# Altium integrated library WE-TI Radial Leaded Wire Wound Inductor.IntLib: 113 symbols (part 1 of 2)
Pins are listed as number, name and electrical type; pins without a type are passive.

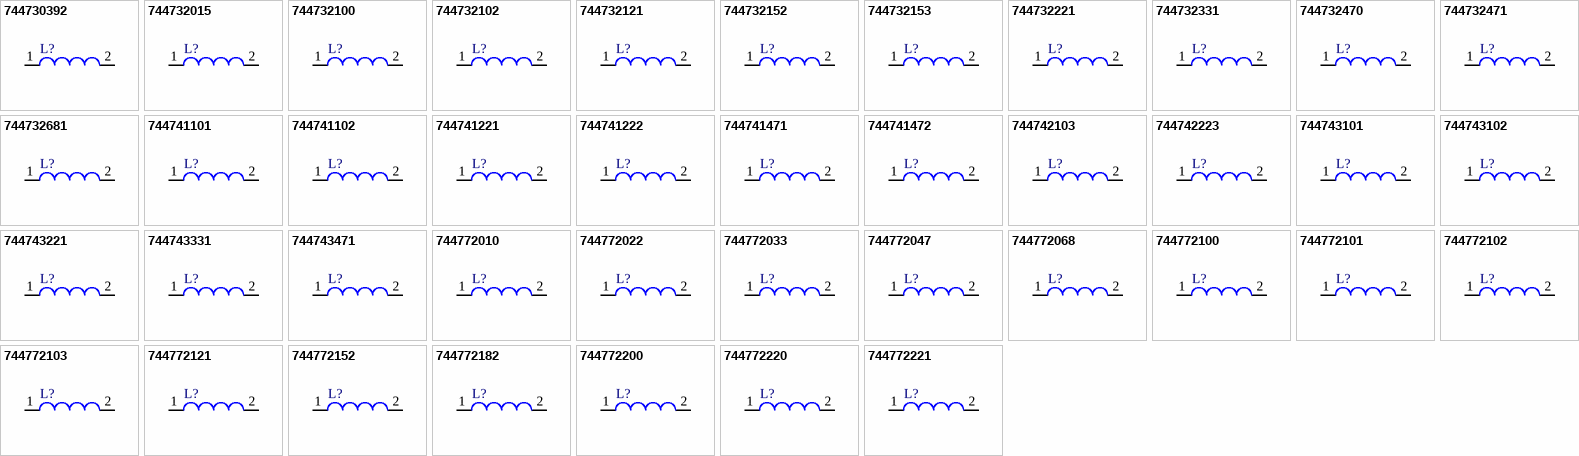
[diagram p0: symbols 744730392 to 744772221]

## 744730392
designator L?
Radial Leaded Wire Wound Inductor WE-TI, L=3900 µH; PartNumber: 744730392; Inductance: 3900 µH; PackageReference: WE-TI-LM; PackageDescription: THT Inductor, 2-Leads, Body 7.8 x 7.8 mm; ComponentLink1Description: Manufacturer URL; ComponentLink1URL: http://www.we-online.com; ComponentLink2Description: Datasheet; ComponentLink2URL: http://www.we-online.de/katalog/media/pdf/744730392.pdf
footprint WE-TI-LM (THT Inductor, 2-Leads, Body 7.8x7.8x7.5 mm)
pins: 1, 2

## 744732015
designator L?
Radial Leaded Wire Wound Inductor WE-TI, L = 1.50 µH; PartNumber: 744732015; DatasheetVersion: ver 4, Oct-2009; PackageReference: WE-TI-LM-STBG; PackageDescription: THT Inductor, 2-Leads, Body 9.5 x 9.5 mm; ComponentLink1Description: Manufacturer URL; ComponentLink1URL: http://www.we-online.com; ComponentLink2Description: Datasheet; ComponentLink2URL: http://www.we-online.de/katalog/media/pdf/744732015.pdf
footprint WE-TI-LM-STBG (THT Inductor, 2-Leads, Body 9.5x9.5x8.0 mm)
pins: 1, 2

## 744732100
designator L?
Radial Leaded Wire Wound Inductor WE-TI, L = 10.0 µH; PartNumber: 744732100; DatasheetVersion: ver 4, Oct-2009; PackageReference: WE-TI-LM-STBG; PackageDescription: THT Inductor, 2-Leads, Body 9.5 x 9.5 mm; ComponentLink1Description: Manufacturer URL; ComponentLink1URL: http://www.we-online.com; ComponentLink2Description: Datasheet; ComponentLink2URL: http://www.we-online.de/katalog/media/pdf/744732100.pdf
footprint WE-TI-LM-STBG (THT Inductor, 2-Leads, Body 9.5x9.5x8.0 mm)
pins: 1, 2

## 744732102
designator L?
Radial Leaded Wire Wound Inductor WE-TI, L = 1000 µH; PartNumber: 744732102; DatasheetVersion: ver 1, Mar-2010; PackageReference: WE-TI-LM-STBG; PackageDescription: THT Inductor, 2-Leads, Body 9.5 x 9.5 mm; ComponentLink1Description: Manufacturer URL; ComponentLink1URL: http://www.we-online.com; ComponentLink2Description: Datasheet; ComponentLink2URL: http://www.we-online.de/katalog/media/pdf/744732102.pdf
footprint WE-TI-LM-STBG (THT Inductor, 2-Leads, Body 9.5x9.5x8.0 mm)
pins: 1, 2

## 744732121
designator L?
Radial Leaded Wire Wound Inductor WE-TI, L = 120 µH; PartNumber: 744732121; DatasheetVersion: ver 1, Jan-2010; PackageReference: WE-TI-LM-STBG; PackageDescription: THT Inductor, 2-Leads, Body 9.5 x 9.5 mm; ComponentLink1Description: Manufacturer URL; ComponentLink1URL: http://www.we-online.com; ComponentLink2Description: Datasheet; ComponentLink2URL: http://www.we-online.de/katalog/media/pdf/744732121.pdf
footprint WE-TI-LM-STBG (THT Inductor, 2-Leads, Body 9.5x9.5x8.0 mm)
pins: 1, 2

## 744732152
designator L?
Radial Leaded Wire Wound Inductor WE-TI, L=1500 µH; PartNumber: 744732152; Inductance: 1500 µH; PackageReference: WE-TI-LM-STBG; PackageDescription: THT Inductor, 2-Leads, Body 9.5 x 9.5 mm; ComponentLink1Description: Manufacturer URL; ComponentLink1URL: http://www.we-online.com; ComponentLink2Description: Datasheet; ComponentLink2URL: http://www.we-online.de/katalog/media/pdf/744732152.pdf
footprint WE-TI-LM-STBG (THT Inductor, 2-Leads, Body 9.5x9.5x8.0 mm)
pins: 1, 2

## 744732153
designator L?
Radial Leaded Wire Wound Inductor WE-TI, L=15000 µH; PartNumber: 744732153; PackageReference: WE-TI-LM-STBG; PackageDescription: THT Inductor, 2-Leads, Body 9.5 x 9.5 mm; Inductance: 15000 µH; ComponentLink1Description: Manufacturer URL; ComponentLink1URL: http://www.we-online.com; ComponentLink2Description: Datasheet; ComponentLink2URL: http://www.we-online.de/katalog/media/pdf/744732153.pdf
footprint WE-TI-LM-STBG (THT Inductor, 2-Leads, Body 9.5x9.5x8.0 mm)
pins: 1, 2

## 744732221
designator L?
Radial Leaded Wire Wound Inductor WE-TI, L = 220 µH; PartNumber: 744732221; DatasheetVersion: ver 1, Mar-2010; PackageReference: WE-TI-LM-STBG; PackageDescription: THT Inductor, 2-Leads, Body 9.5 x 9.5 mm; ComponentLink1Description: Manufacturer URL; ComponentLink1URL: http://www.we-online.com; ComponentLink2Description: Datasheet; ComponentLink2URL: http://www.we-online.de/katalog/media/pdf/744732221.pdf
footprint WE-TI-LM-STBG (THT Inductor, 2-Leads, Body 9.5x9.5x8.0 mm)
pins: 1, 2

## 744732331
designator L?
Radial Leaded Wire Wound Inductor WE-TI, L = 330 µH; PartNumber: 744732331; DatasheetVersion: ver 3, Nov-2009; PackageReference: WE-TI-LM-STBG; PackageDescription: THT Inductor, 2-Leads, Body 9.5 x 9.5 mm; ComponentLink1Description: Manufacturer URL; ComponentLink1URL: http://www.we-online.com; ComponentLink2Description: Datasheet; ComponentLink2URL: http://www.we-online.de/katalog/media/pdf/744732331.pdf
footprint WE-TI-LM-STBG (THT Inductor, 2-Leads, Body 9.5x9.5x8.0 mm)
pins: 1, 2

## 744732470
designator L?
Radial Leaded Wire Wound Inductor WE-TI, L = 47.0 µH; PartNumber: 744732470; DatasheetVersion: ver 2, Jan-2010; PackageReference: WE-TI-LM-STBG; PackageDescription: THT Inductor, 2-Leads, Body 9.5 x 9.5 mm; ComponentLink1Description: Manufacturer URL; ComponentLink1URL: http://www.we-online.com; ComponentLink2Description: Datasheet; ComponentLink2URL: http://www.we-online.de/katalog/media/pdf/744732470.pdf
footprint WE-TI-LM-STBG (THT Inductor, 2-Leads, Body 9.5x9.5x8.0 mm)
pins: 1, 2

## 744732471
designator L?
Radial Leaded Wire Wound Inductor WE-TI, L = 470 µH; PartNumber: 744732471; DatasheetVersion: ver 1, Mar-2010; PackageReference: WE-TI-LM-STBG; PackageDescription: THT Inductor, 2-Leads, Body 9.5 x 9.5 mm; ComponentLink1Description: Manufacturer URL; ComponentLink1URL: http://www.we-online.com; ComponentLink2Description: Datasheet; ComponentLink2URL: http://www.we-online.de/katalog/media/pdf/744732471.pdf
footprint WE-TI-LM-STBG (THT Inductor, 2-Leads, Body 9.5x9.5x8.0 mm)
pins: 1, 2

## 744732681
designator L?
Radial Leaded Wire Wound Inductor WE-TI, L = 680 µH; PartNumber: 744732681; DatasheetVersion: ver 1, Mar-2010; PackageReference: WE-TI-LM-STBG; PackageDescription: THT Inductor, 2-Leads, Body 9.5 x 9.5 mm; ComponentLink1Description: Manufacturer URL; ComponentLink1URL: http://www.we-online.com; ComponentLink2Description: Datasheet; ComponentLink2URL: http://www.we-online.de/katalog/media/pdf/744732681.pdf
footprint WE-TI-LM-STBG (THT Inductor, 2-Leads, Body 9.5x9.5x8.0 mm)
pins: 1, 2

## 744741101
designator L?
Radial Leaded Wire Wound Inductor WE-TI, L = 100 µH; PartNumber: 744741101; DatasheetVersion: ver 2, Nov-2004; PackageReference: WE-TI-LS; PackageDescription: THT Inductor, 2-Leads, Body 8.0 x 8.0 mm; ComponentLink1Description: Manufacturer URL; ComponentLink1URL: http://www.we-online.com; ComponentLink2Description: Datasheet; ComponentLink2URL: http://www.we-online.de/katalog/media/pdf/744741101.pdf
footprint WE-TI-LS (THT Inductor, 2-Leads, Body 8.0x8.0x6.0 mm)
pins: 1, 2

## 744741102
designator L?
Radial Leaded Wire Wound Inductor WE-TI, L = 1000 µH; PartNumber: 744741102; DatasheetVersion: ver 2, Nov-2004; PackageReference: WE-TI-LS; PackageDescription: THT Inductor, 2-Leads, Body 8.0 x 8.0 mm; ComponentLink1Description: Manufacturer URL; ComponentLink1URL: http://www.we-online.com; ComponentLink2Description: Datasheet; ComponentLink2URL: http://www.we-online.de/katalog/media/pdf/744741102.pdf
footprint WE-TI-LS (THT Inductor, 2-Leads, Body 8.0x8.0x6.0 mm)
pins: 1, 2

## 744741221
designator L?
Radial Leaded Wire Wound Inductor WE-TI, L = 220 µH; PartNumber: 744741221; DatasheetVersion: ver 2, Nov-2004; PackageReference: WE-TI-LS; PackageDescription: THT Inductor, 2-Leads, Body 8.0 x 8.0 mm; ComponentLink1Description: Manufacturer URL; ComponentLink1URL: http://www.we-online.com; ComponentLink2Description: Datasheet; ComponentLink2URL: http://www.we-online.de/katalog/media/pdf/744741221.pdf
footprint WE-TI-LS (THT Inductor, 2-Leads, Body 8.0x8.0x6.0 mm)
pins: 1, 2

## 744741222
designator L?
Radial Leaded Wire Wound Inductor WE-TI, L = 2200 µH; PartNumber: 744741222; DatasheetVersion: ver 2, Nov-2004; PackageReference: WE-TI-LS; PackageDescription: THT Inductor, 2-Leads, Body 8.0 x 8.0 mm; ComponentLink1Description: Manufacturer URL; ComponentLink1URL: http://www.we-online.com; ComponentLink2Description: Datasheet; ComponentLink2URL: http://www.we-online.de/katalog/media/pdf/744741222.pdf
footprint WE-TI-LS (THT Inductor, 2-Leads, Body 8.0x8.0x6.0 mm)
pins: 1, 2

## 744741471
designator L?
Radial Leaded Wire Wound Inductor WE-TI, L = 470 µH; PartNumber: 744741471; DatasheetVersion: ver 2, Nov-2004; PackageReference: WE-TI-LS; PackageDescription: THT Inductor, 2-Leads, Body 8.0 x 8.0 mm; ComponentLink1Description: Manufacturer URL; ComponentLink1URL: http://www.we-online.com; ComponentLink2Description: Datasheet; ComponentLink2URL: http://www.we-online.de/katalog/media/pdf/744741471.pdf
footprint WE-TI-LS (THT Inductor, 2-Leads, Body 8.0x8.0x6.0 mm)
pins: 1, 2

## 744741472
designator L?
Radial Leaded Wire Wound Inductor WE-TI, L = 4700 µH; PartNumber: 744741472; DatasheetVersion: ver 2, Nov-2004; PackageReference: WE-TI-LS; PackageDescription: THT Inductor, 2-Leads, Body 8.0 x 8.0 mm; ComponentLink1Description: Manufacturer URL; ComponentLink1URL: http://www.we-online.com; ComponentLink2Description: Datasheet; ComponentLink2URL: http://www.we-online.de/katalog/media/pdf/744741472.pdf
footprint WE-TI-LS (THT Inductor, 2-Leads, Body 8.0x8.0x6.0 mm)
pins: 1, 2

## 744742103
designator L?
Radial Leaded Wire Wound Inductor WE-TI, L=10000 µH; PartNumber: 744742103; PackageReference: WE-TI-L; PackageDescription: THT Inductor, 2-Leads, Body 7.8 x 7.8 mm; Inductance: 10000 µH; ComponentLink1Description: Manufacturer URL; ComponentLink1URL: http://www.we-online.com; ComponentLink2Description: Datasheet; ComponentLink2URL: http://www.we-online.de/katalog/media/pdf/744742103.pdf
footprint WE-TI 8095 shrink tube (THT Inductor, 2-Leads, Body 8,0  mm)
pins: 1, 2

## 744742223
designator L?
Radial Leaded Wire Wound Inductor WE-TI, L = 22000 µH; PartNumber: 744742223; DatasheetVersion: ver 5, Nov-2005; PackageReference: WE-TI-L; PackageDescription: THT Inductor, 2-Leads, Body 7.8 x 7.8 mm; ComponentLink1Description: Manufacturer URL; ComponentLink1URL: http://www.we-online.com; ComponentLink2Description: Datasheet; ComponentLink2URL: http://www.we-online.de/katalog/media/pdf/744742223.pdf
footprint WE-TI-L (THT Inductor, 2-Leads, Body 7.8x7.8x10.0 mm)
pins: 1, 2

## 744743101
designator L?
Radial Leaded Wire Wound Inductor WE-TI, L = 100 µH; PartNumber: 744743101; DatasheetVersion: ver 3, Nov-2004; PackageReference: WE-TI-LB; PackageDescription: THT Inductor, 2-Leads, Body 8.0 x 8.0 mm; ComponentLink1Description: Manufacturer URL; ComponentLink1URL: http://www.we-online.com; ComponentLink2Description: Datasheet; ComponentLink2URL: http://www.we-online.de/katalog/media/pdf/744743101.pdf
footprint WE-TI-LB (THT Inductor, 2-Leads, Body 8.0x8.0x12.5 mm)
pins: 1, 2

## 744743102
designator L?
Radial Leaded Wire Wound Inductor WE-TI, L = 1000 µH; PartNumber: 744743102; DatasheetVersion: ver 3, Nov-2004; PackageReference: WE-TI-LB; PackageDescription: THT Inductor, 2-Leads, Body 8.0 x 8.0 mm; ComponentLink1Description: Manufacturer URL; ComponentLink1URL: http://www.we-online.com; ComponentLink2Description: Datasheet; ComponentLink2URL: http://www.we-online.de/katalog/media/pdf/744743102.pdf
footprint WE-TI-LB (THT Inductor, 2-Leads, Body 8.0x8.0x12.5 mm)
pins: 1, 2

## 744743221
designator L?
Radial Leaded Wire Wound Inductor WE-TI, L = 220 µH; PartNumber: 744743221; DatasheetVersion: ver 3, Nov-2004; PackageReference: WE-TI-LB; PackageDescription: THT Inductor, 2-Leads, Body 8.0 x 8.0 mm; ComponentLink1Description: Manufacturer URL; ComponentLink1URL: http://www.we-online.com; ComponentLink2Description: Datasheet; ComponentLink2URL: http://www.we-online.de/katalog/media/pdf/744743221.pdf
footprint WE-TI-LB (THT Inductor, 2-Leads, Body 8.0x8.0x12.5 mm)
pins: 1, 2

## 744743331
designator L?
Radial Leaded Wire Wound Inductor WE-TI, L = 330 µH; PartNumber: 744743331; DatasheetVersion: ver 3, Nov-2004; PackageReference: WE-TI-LB; PackageDescription: THT Inductor, 2-Leads, Body 8.0 x 8.0 mm; ComponentLink1Description: Manufacturer URL; ComponentLink1URL: http://www.we-online.com; ComponentLink2Description: Datasheet; ComponentLink2URL: http://www.we-online.de/katalog/media/pdf/744743331.pdf
footprint WE-TI-LB (THT Inductor, 2-Leads, Body 8.0x8.0x12.5 mm)
pins: 1, 2

## 744743471
designator L?
Radial Leaded Wire Wound Inductor WE-TI, L = 470 µH; PartNumber: 744743471; DatasheetVersion: ver 3, Nov-2004; PackageReference: WE-TI-LB; PackageDescription: THT Inductor, 2-Leads, Body 8.0 x 8.0 mm; ComponentLink1Description: Manufacturer URL; ComponentLink1URL: http://www.we-online.com; ComponentLink2Description: Datasheet; ComponentLink2URL: http://www.we-online.de/katalog/media/pdf/744743471.pdf
footprint WE-TI-LB (THT Inductor, 2-Leads, Body 8.0x8.0x12.5 mm)
pins: 1, 2

## 744772010
designator L?
Radial Leaded Wire Wound Inductor WE-TI, L = 1.00 µH; PartNumber: 744772010; DatasheetVersion: ver 2, Feb-2009; PackageReference: WE-TI-L; PackageDescription: THT Inductor, 2-Leads, Body 7.8 x 7.8 mm; ComponentLink1Description: Manufacturer URL; ComponentLink1URL: http://www.we-online.com; ComponentLink2Description: Datasheet; ComponentLink2URL: http://www.we-online.de/katalog/media/pdf/744772010.pdf
footprint WE-TI-L (THT Inductor, 2-Leads, Body 7.8x7.8x10.0 mm)
pins: 1, 2

## 744772022
designator L?
Radial Leaded Wire Wound Inductor WE-TI, L = 2.20 µH; PartNumber: 744772022; DatasheetVersion: May-2006; PackageReference: WE-TI-L; PackageDescription: THT Inductor, 2-Leads, Body 7.8 x 7.8 mm; ComponentLink1Description: Manufacturer URL; ComponentLink1URL: http://www.we-online.com; ComponentLink2Description: Datasheet; ComponentLink2URL: http://www.we-online.de/katalog/media/pdf/744772022.pdf
footprint WE-TI-L (THT Inductor, 2-Leads, Body 7.8x7.8x10.0 mm)
pins: 1, 2

## 744772033
designator L?
Radial Leaded Wire Wound Inductor WE-TI, L = 3.30 µH; PartNumber: 744772033; DatasheetVersion: May-2006; PackageReference: WE-TI-L; PackageDescription: THT Inductor, 2-Leads, Body 7.8 x 7.8 mm; ComponentLink1Description: Manufacturer URL; ComponentLink1URL: http://www.we-online.com; ComponentLink2Description: Datasheet; ComponentLink2URL: http://www.we-online.de/katalog/media/pdf/744772033.pdf
footprint WE-TI-L (THT Inductor, 2-Leads, Body 7.8x7.8x10.0 mm)
pins: 1, 2

## 744772047
designator L?
Radial Leaded Wire Wound Inductor WE-TI, L = 4.70 µH; PartNumber: 744772047; DatasheetVersion: May-2006; PackageReference: WE-TI-L; PackageDescription: THT Inductor, 2-Leads, Body 7.8 x 7.8 mm; ComponentLink1Description: Manufacturer URL; ComponentLink1URL: http://www.we-online.com; ComponentLink2Description: Datasheet; ComponentLink2URL: http://www.we-online.de/katalog/media/pdf/744772047.pdf
footprint WE-TI-L (THT Inductor, 2-Leads, Body 7.8x7.8x10.0 mm)
pins: 1, 2

## 744772068
designator L?
Radial Leaded Wire Wound Inductor WE-TI, L = 6.80 µH; PartNumber: 744772068; DatasheetVersion: May-2006; PackageReference: WE-TI-L; PackageDescription: THT Inductor, 2-Leads, Body 7.8 x 7.8 mm; ComponentLink1Description: Manufacturer URL; ComponentLink1URL: http://www.we-online.com; ComponentLink2Description: Datasheet; ComponentLink2URL: http://www.we-online.de/katalog/media/pdf/744772068.pdf
footprint WE-TI-L (THT Inductor, 2-Leads, Body 7.8x7.8x10.0 mm)
pins: 1, 2

## 744772100
designator L?
Radial Leaded Wire Wound Inductor WE-TI, L = 10.0 µH; PartNumber: 744772100; DatasheetVersion: May-2006; PackageReference: WE-TI-L; PackageDescription: THT Inductor, 2-Leads, Body 7.8 x 7.8 mm; ComponentLink1Description: Manufacturer URL; ComponentLink1URL: http://www.we-online.com; ComponentLink2Description: Datasheet; ComponentLink2URL: http://www.we-online.de/katalog/media/pdf/744772100.pdf
footprint WE-TI-L (THT Inductor, 2-Leads, Body 7.8x7.8x10.0 mm)
pins: 1, 2

## 744772101
designator L?
Radial Leaded Wire Wound Inductor WE-TI, L = 100 µH; PartNumber: 744772101; DatasheetVersion: May-2006; PackageReference: WE-TI-L; PackageDescription: THT Inductor, 2-Leads, Body 7.8 x 7.8 mm; ComponentLink1Description: Manufacturer URL; ComponentLink1URL: http://www.we-online.com; ComponentLink2Description: Datasheet; ComponentLink2URL: http://www.we-online.de/katalog/media/pdf/744772101.pdf
footprint WE-TI-L (THT Inductor, 2-Leads, Body 7.8x7.8x10.0 mm)
pins: 1, 2

## 744772102
designator L?
Radial Leaded Wire Wound Inductor WE-TI, L = 1000 µH; PartNumber: 744772102; DatasheetVersion: May-2006; PackageReference: WE-TI-L; PackageDescription: THT Inductor, 2-Leads, Body 7.8 x 7.8 mm; ComponentLink1Description: Manufacturer URL; ComponentLink1URL: http://www.we-online.com; ComponentLink2Description: Datasheet; ComponentLink2URL: http://www.we-online.de/katalog/media/pdf/744772102.pdf
footprint WE-TI-L (THT Inductor, 2-Leads, Body 7.8x7.8x10.0 mm)
pins: 1, 2

## 744772103
designator L?
Radial Leaded Wire Wound Inductor WE-TI, L = 10000 µH; PartNumber: 744772103; DatasheetVersion: May-2006; PackageReference: WE-TI-L; PackageDescription: THT Inductor, 2-Leads, Body 7.8 x 7.8 mm; ComponentLink1Description: Manufacturer URL; ComponentLink1URL: http://www.we-online.com; ComponentLink2Description: Datasheet; ComponentLink2URL: http://www.we-online.de/katalog/media/pdf/744772103.pdf
footprint WE-TI-L (THT Inductor, 2-Leads, Body 7.8x7.8x10.0 mm)
pins: 1, 2

## 744772121
designator L?
Radial Leaded Wire Wound Inductor WE-TI, L = 120 µH; PartNumber: 744772121; DatasheetVersion: May-2006; PackageReference: WE-TI-L; PackageDescription: THT Inductor, 2-Leads, Body 7.8 x 7.8 mm; ComponentLink1Description: Manufacturer URL; ComponentLink1URL: http://www.we-online.com; ComponentLink2Description: Datasheet; ComponentLink2URL: http://www.we-online.de/katalog/media/pdf/744772121.pdf
footprint WE-TI-L (THT Inductor, 2-Leads, Body 7.8x7.8x10.0 mm)
pins: 1, 2

## 744772152
designator L?
Radial Leaded Wire Wound Inductor WE-TI, L=1500 µH; PartNumber: 744772152; Inductance: 1500 µH; PackageReference: WE-TI-L; PackageDescription: THT Inductor, 2-Leads, Body 7.8 x 7.8 mm; ComponentLink1Description: Manufacturer URL; ComponentLink1URL: http://www.we-online.com; ComponentLink2Description: Datasheet; ComponentLink2URL: http://www.we-online.de/katalog/media/pdf/744772152.pdf
footprint WE-TI 8095 (THT Inductor, 2-Leads, Body 7,8  mm)
pins: 1, 2

## 744772182
designator L?
Radial Leaded Wire Wound Inductor WE-TI, L = 1800 µH; PartNumber: 744772182; DatasheetVersion: May-2006; PackageReference: WE-TI-L; PackageDescription: THT Inductor, 2-Leads, Body 7.8 x 7.8 mm; ComponentLink1Description: Manufacturer URL; ComponentLink1URL: http://www.we-online.com; ComponentLink2Description: Datasheet; ComponentLink2URL: http://www.we-online.de/katalog/media/pdf/744772182.pdf
footprint WE-TI-L (THT Inductor, 2-Leads, Body 7.8x7.8x10.0 mm)
pins: 1, 2

## 744772200
designator L?
Radial Leaded Wire Wound Inductor WE-TI, L=20.0 µH; PartNumber: 744772200; Inductance: 20.0 µH; PackageReference: WE-TI-L; PackageDescription: THT Inductor, 2-Leads, Body 7.8 x 7.8 mm; ComponentLink1Description: Manufacturer URL; ComponentLink1URL: http://www.we-online.com; ComponentLink2Description: Datasheet; ComponentLink2URL: http://www.we-online.de/katalog/media/pdf/744772200.pdf
footprint WE-TI 8095 (THT Inductor, 2-Leads, Body 7,8  mm)
pins: 1, 2

## 744772220
designator L?
Radial Leaded Wire Wound Inductor WE-TI, L = 22.0 µH; PartNumber: 744772220; DatasheetVersion: ver 2, Dec-2004; PackageReference: WE-TI-L; PackageDescription: THT Inductor, 2-Leads, Body 7.8 x 7.8 mm; ComponentLink1Description: Manufacturer URL; ComponentLink1URL: http://www.we-online.com; ComponentLink2Description: Datasheet; ComponentLink2URL: http://www.we-online.de/katalog/media/pdf/744772220.pdf
footprint WE-TI-L (THT Inductor, 2-Leads, Body 7.8x7.8x10.0 mm)
pins: 1, 2

## 744772221
designator L?
Radial Leaded Wire Wound Inductor WE-TI, L = 220 µH; PartNumber: 744772221; DatasheetVersion: ver 9, Sep-2010; PackageReference: WE-TI-L; PackageDescription: THT Inductor, 2-Leads, Body 7.8 x 7.8 mm; ComponentLink1Description: Manufacturer URL; ComponentLink1URL: http://www.we-online.com; ComponentLink2Description: Datasheet; ComponentLink2URL: http://www.we-online.de/katalog/media/pdf/744772221.pdf
footprint WE-TI-L (THT Inductor, 2-Leads, Body 7.8x7.8x10.0 mm)
pins: 1, 2

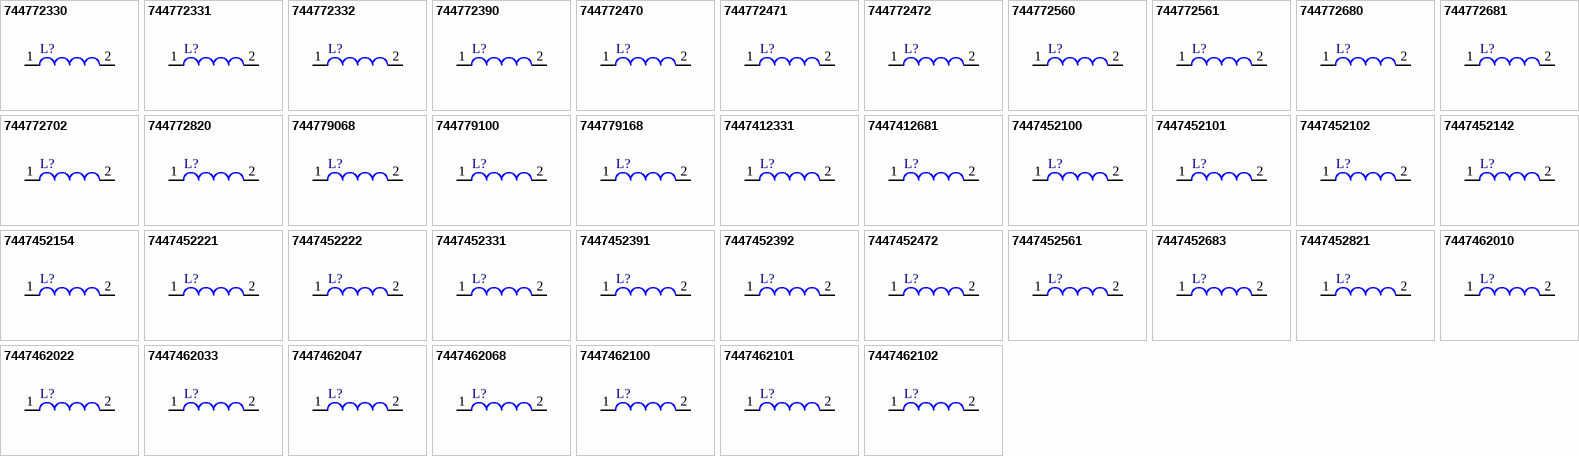
[diagram p1: symbols 744772330 to 7447462102]

## 744772330
designator L?
Radial Leaded Wire Wound Inductor WE-TI, L = 33.0 µH; PartNumber: 744772330; DatasheetVersion: May-2006; PackageReference: WE-TI-L; PackageDescription: THT Inductor, 2-Leads, Body 7.8 x 7.8 mm; ComponentLink1Description: Manufacturer URL; ComponentLink1URL: http://www.we-online.com; ComponentLink2Description: Datasheet; ComponentLink2URL: http://www.we-online.de/katalog/media/pdf/744772330.pdf
footprint WE-TI-L (THT Inductor, 2-Leads, Body 7.8x7.8x10.0 mm)
pins: 1, 2

## 744772331
designator L?
Radial Leaded Wire Wound Inductor WE-TI, L=330 µH; PartNumber: 744772331; Inductance: 330 µH; PackageReference: WE-TI-L; PackageDescription: THT Inductor, 2-Leads, Body 7.8 x 7.8 mm; ComponentLink1Description: Manufacturer URL; ComponentLink1URL: http://www.we-online.com; ComponentLink2Description: Datasheet; ComponentLink2URL: http://www.we-online.de/katalog/media/pdf/744772331.pdf
footprint WE-TI 8095 (THT Inductor, 2-Leads, Body 7,8  mm)
pins: 1, 2

## 744772332
designator L?
Radial Leaded Wire Wound Inductor WE-TI, L=3300 µH; PartNumber: 744772332; Inductance: 3300 µH; PackageReference: WE-TI-L; PackageDescription: THT Inductor, 2-Leads, Body 7.8 x 7.8 mm; ComponentLink1Description: Manufacturer URL; ComponentLink1URL: http://www.we-online.com; ComponentLink2Description: Datasheet; ComponentLink2URL: http://www.we-online.de/katalog/media/pdf/744772332.pdf
footprint WE-TI 8095 (THT Inductor, 2-Leads, Body 7,8  mm)
pins: 1, 2

## 744772390
designator L?
Radial Leaded Wire Wound Inductor WE-TI, L = 39.0 µH; PartNumber: 744772390; DatasheetVersion: ver 8, Oct-2009; PackageReference: WE-TI-L; PackageDescription: THT Inductor, 2-Leads, Body 7.8 x 7.8 mm; ComponentLink1Description: Manufacturer URL; ComponentLink1URL: http://www.we-online.com; ComponentLink2Description: Datasheet; ComponentLink2URL: http://www.we-online.de/katalog/media/pdf/744772390.pdf
footprint WE-TI-L (THT Inductor, 2-Leads, Body 7.8x7.8x10.0 mm)
pins: 1, 2

## 744772470
designator L?
Radial Leaded Wire Wound Inductor WE-TI, L = 47.0 µH; PartNumber: 744772470; DatasheetVersion: ver 9, Sep-2010; PackageReference: WE-TI-L; PackageDescription: THT Inductor, 2-Leads, Body 7.8 x 7.8 mm; ComponentLink1Description: Manufacturer URL; ComponentLink1URL: http://www.we-online.com; ComponentLink2Description: Datasheet; ComponentLink2URL: http://www.we-online.de/katalog/media/pdf/744772470.pdf
footprint WE-TI-L (THT Inductor, 2-Leads, Body 7.8x7.8x10.0 mm)
pins: 1, 2

## 744772471
designator L?
Radial Leaded Wire Wound Inductor WE-TI, L = 470 µH; PartNumber: 744772471; DatasheetVersion: May-2006; PackageReference: WE-TI-L; PackageDescription: THT Inductor, 2-Leads, Body 7.8 x 7.8 mm; ComponentLink1Description: Manufacturer URL; ComponentLink1URL: http://www.we-online.com; ComponentLink2Description: Datasheet; ComponentLink2URL: http://www.we-online.de/katalog/media/pdf/744772471.pdf
footprint WE-TI-L (THT Inductor, 2-Leads, Body 7.8x7.8x10.0 mm)
pins: 1, 2

## 744772472
designator L?
Radial Leaded Wire Wound Inductor WE-TI, L = 4700 µH; PartNumber: 744772472; DatasheetVersion: ver 9, Feb-2011; PackageReference: WE-TI-L; PackageDescription: THT Inductor, 2-Leads, Body 7.8 x 7.8 mm; ComponentLink1Description: Manufacturer URL; ComponentLink1URL: http://www.we-online.com; ComponentLink2Description: Datasheet; ComponentLink2URL: http://www.we-online.de/katalog/media/pdf/744772472.pdf
footprint WE-TI-L (THT Inductor, 2-Leads, Body 7.8x7.8x10.0 mm)
pins: 1, 2

## 744772560
designator L?
Radial Leaded Wire Wound Inductor WE-TI, L = 56.0 µH; PartNumber: 744772560; DatasheetVersion: May-2006; PackageReference: WE-TI-L; PackageDescription: THT Inductor, 2-Leads, Body 7.8 x 7.8 mm; ComponentLink1Description: Manufacturer URL; ComponentLink1URL: http://www.we-online.com; ComponentLink2Description: Datasheet; ComponentLink2URL: http://www.we-online.de/katalog/media/pdf/744772560.pdf
footprint WE-TI-L (THT Inductor, 2-Leads, Body 7.8x7.8x10.0 mm)
pins: 1, 2

## 744772561
designator L?
Radial Leaded Wire Wound Inductor WE-TI, L = 560 µH; PartNumber: 744772561; DatasheetVersion: ver 2, Jun-2006; PackageReference: WE-TI-L; PackageDescription: THT Inductor, 2-Leads, Body 7.8 x 7.8 mm; ComponentLink1Description: Manufacturer URL; ComponentLink1URL: http://www.we-online.com; ComponentLink2Description: Datasheet; ComponentLink2URL: http://www.we-online.de/katalog/media/pdf/744772561.pdf
footprint WE-TI-L (THT Inductor, 2-Leads, Body 7.8x7.8x10.0 mm)
pins: 1, 2

## 744772680
designator L?
Radial Leaded Wire Wound Inductor WE-TI, L = 68.0 µH; PartNumber: 744772680; DatasheetVersion: May-2006; PackageReference: WE-TI-L; PackageDescription: THT Inductor, 2-Leads, Body 7.8 x 7.8 mm; ComponentLink1Description: Manufacturer URL; ComponentLink1URL: http://www.we-online.com; ComponentLink2Description: Datasheet; ComponentLink2URL: http://www.we-online.de/katalog/media/pdf/744772680.pdf
footprint WE-TI-L (THT Inductor, 2-Leads, Body 7.8x7.8x10.0 mm)
pins: 1, 2

## 744772681
designator L?
Radial Leaded Wire Wound Inductor WE-TI, L = 680 µH; PartNumber: 744772681; DatasheetVersion: May-2006; PackageReference: WE-TI-L; PackageDescription: THT Inductor, 2-Leads, Body 7.8 x 7.8 mm; ComponentLink1Description: Manufacturer URL; ComponentLink1URL: http://www.we-online.com; ComponentLink2Description: Datasheet; ComponentLink2URL: http://www.we-online.de/katalog/media/pdf/744772681.pdf
footprint WE-TI-L (THT Inductor, 2-Leads, Body 7.8x7.8x10.0 mm)
pins: 1, 2

## 744772702
designator L?
Radial Leaded Wire Wound Inductor WE-TI, L=7000 µH; PartNumber: 744772702; Inductance: 7000 µH; PackageReference: WE-TI-L; PackageDescription: THT Inductor, 2-Leads, Body 7.8 x 7.8 mm; ComponentLink1Description: Manufacturer URL; ComponentLink1URL: http://www.we-online.com; ComponentLink2Description: Datasheet; ComponentLink2URL: http://www.we-online.de/katalog/media/pdf/744772702.pdf
footprint WE-TI 8095 (THT Inductor, 2-Leads, Body 7,8  mm)
pins: 1, 2

## 744772820
designator L?
Radial Leaded Wire Wound Inductor WE-TI, L = 82.0 µH; PartNumber: 744772820; DatasheetVersion: May-2006; PackageReference: WE-TI-L; PackageDescription: THT Inductor, 2-Leads, Body 7.8 x 7.8 mm; ComponentLink1Description: Manufacturer URL; ComponentLink1URL: http://www.we-online.com; ComponentLink2Description: Datasheet; ComponentLink2URL: http://www.we-online.de/katalog/media/pdf/744772820.pdf
footprint WE-TI-L (THT Inductor, 2-Leads, Body 7.8x7.8x10.0 mm)
pins: 1, 2

## 744779068
designator L?
Radial Leaded Wire Wound Inductor WE-TI, L = 6.80 µH; PartNumber: 744779068; DatasheetVersion: Jul-2006; PackageReference: WE-TI-M; PackageDescription: THT Inductor, 2-Leads, Body 6.0 x 6.0 mm; ComponentLink1Description: Manufacturer URL; ComponentLink1URL: http://www.we-online.com; ComponentLink2Description: Datasheet; ComponentLink2URL: http://www.we-online.de/katalog/media/pdf/744779068.pdf
footprint WE-TI-M (THT Inductor, 2-Leads, Body 6.0x6.0x6.5 mm)
pins: 1, 2

## 744779100
designator L?
Radial Leaded Wire Wound Inductor WE-TI, L = 10.0 µH; PartNumber: 744779100; DatasheetVersion: Jul-2006; PackageReference: WE-TI-M; PackageDescription: THT Inductor, 2-Leads, Body 6.0 x 6.0 mm; ComponentLink1Description: Manufacturer URL; ComponentLink1URL: http://www.we-online.com; ComponentLink2Description: Datasheet; ComponentLink2URL: http://www.we-online.de/katalog/media/pdf/744779100.pdf
footprint WE-TI-M (THT Inductor, 2-Leads, Body 6.0x6.0x6.5 mm)
pins: 1, 2

## 744779168
designator L?
Radial Leaded Wire Wound Inductor WE-TI, L = 68.0 µH; PartNumber: 744779168; DatasheetVersion: ver 1, Apr-2007; PackageReference: WE-TI-M; PackageDescription: THT Inductor, 2-Leads, Body 6.0 x 6.0 mm; ComponentLink1Description: Manufacturer URL; ComponentLink1URL: http://www.we-online.com; ComponentLink2Description: Datasheet; ComponentLink2URL: http://www.we-online.de/katalog/media/pdf/744779168.pdf
footprint WE-TI-M (THT Inductor, 2-Leads, Body 6.0x6.0x6.5 mm)
pins: 1, 2

## 7447412331
designator L?
Radial Leaded Wire Wound Inductor WE-TI, L = 330 µH; PartNumber: 7447412331; DatasheetVersion: ver 2, Nov-2008; PackageReference: WE-TI-LS; PackageDescription: THT Inductor, 2-Leads, Body 8.0 x 8.0 mm; ComponentLink1Description: Manufacturer URL; ComponentLink1URL: http://www.we-online.com; ComponentLink2Description: Datasheet; ComponentLink2URL: http://www.we-online.de/katalog/media/pdf/7447412331.pdf
footprint WE-TI-LS (THT Inductor, 2-Leads, Body 8.0x8.0x6.0 mm)
pins: 1, 2

## 7447412681
designator L?
Radial Leaded Wire Wound Inductor WE-TI, L = 680 µH; PartNumber: 7447412681; DatasheetVersion: ver 2, Nov-2008; PackageReference: WE-TI-LS; PackageDescription: THT Inductor, 2-Leads, Body 8.0 x 8.0 mm; ComponentLink1Description: Manufacturer URL; ComponentLink1URL: http://www.we-online.com; ComponentLink2Description: Datasheet; ComponentLink2URL: http://www.we-online.de/katalog/media/pdf/7447412681.pdf
footprint WE-TI-LS (THT Inductor, 2-Leads, Body 8.0x8.0x6.0 mm)
pins: 1, 2

## 7447452100
designator L?
Radial Leaded Wire Wound Inductor WE-TI, L=10.0 µH; PartNumber: 7447452100; Inductance: 10.0 µH; PackageReference: WE-TI 8012; ComponentLink1Description: Manufacturer URL; ComponentLink1URL: http://www.we-online.com; ComponentLink2Description: Datasheet; ComponentLink2URL: http://www.we-online.de/katalog/media/pdf/7447452100.pdf
footprint WE-TI 8012 (THT Inductor, 2-Leads, Body 8,0  mm)
pins: 1, 2

## 7447452101
designator L?
Radial Leaded Wire Wound Inductor WE-TI, L=100 µH; PartNumber: 7447452101; Inductance: 100 µH; PackageReference: WE-TI 8012; ComponentLink1Description: Manufacturer URL; ComponentLink1URL: http://www.we-online.com; ComponentLink2Description: Datasheet; ComponentLink2URL: http://www.we-online.de/katalog/media/pdf/7447452101.pdf
footprint WE-TI 8012 (THT Inductor, 2-Leads, Body 8,0  mm)
pins: 1, 2

## 7447452102
designator L?
Radial Leaded Wire Wound Inductor WE-TI, L=1000 µH; PartNumber: 7447452102; Inductance: 1000 µH; PackageReference: WE-TI 8012; ComponentLink1Description: Manufacturer URL; ComponentLink1URL: http://www.we-online.com; ComponentLink2Description: Datasheet; ComponentLink2URL: http://www.we-online.de/katalog/media/pdf/7447452102.pdf
footprint WE-TI 8012 (THT Inductor, 2-Leads, Body 8,0  mm)
pins: 1, 2

## 7447452142
designator L?
Radial Leaded Wire Wound Inductor WE-TI, L=1500 µH; PartNumber: 7447452142; Inductance: 1500 µH; PackageReference: WE-TI 8012; ComponentLink1Description: Manufacturer URL; ComponentLink1URL: http://www.we-online.com; ComponentLink2Description: Datasheet; ComponentLink2URL: http://www.we-online.de/katalog/media/pdf/7447452152.pdf
footprint WE-TI 8012 (THT Inductor, 2-Leads, Body 8,0  mm)
pins: 1, 2

## 7447452154
designator L?
Radial Leaded Wire Wound Inductor WE-TI, L=150000 µH; PartNumber: 7447452154; PackageReference: WE-TI 8012; Inductance: 150000 µH; ComponentLink1Description: Manufacturer URL; ComponentLink1URL: http://www.we-online.com; ComponentLink2Description: Datasheet; ComponentLink2URL: http://www.we-online.de/katalog/media/pdf/7447452154.pdf
footprint WE-TI 8012 (THT Inductor, 2-Leads, Body 8,0  mm)
pins: 1, 2

## 7447452221
designator L?
Radial Leaded Wire Wound Inductor WE-TI, L=220 µH; PartNumber: 7447452221; Inductance: 220 µH; PackageReference: WE-TI 8012; ComponentLink1Description: Manufacturer URL; ComponentLink1URL: http://www.we-online.com; ComponentLink2Description: Datasheet; ComponentLink2URL: http://www.we-online.de/katalog/media/pdf/7447452221.pdf
footprint WE-TI 8012 (THT Inductor, 2-Leads, Body 8,0  mm)
pins: 1, 2

## 7447452222
designator L?
Radial Leaded Wire Wound Inductor WE-TI, L=2200 µH; PartNumber: 7447452222; Inductance: 2200 µH; PackageReference: WE-TI 8012; ComponentLink1Description: Manufacturer URL; ComponentLink1URL: http://www.we-online.com; ComponentLink2Description: Datasheet; ComponentLink2URL: http://www.we-online.de/katalog/media/pdf/7447452222.pdf
footprint WE-TI 8012 (THT Inductor, 2-Leads, Body 8,0  mm)
pins: 1, 2

## 7447452331
designator L?
Radial Leaded Wire Wound Inductor WE-TI, L=330 µH; PartNumber: 7447452331; Inductance: 330 µH; PackageReference: WE-TI 8012; ComponentLink1Description: Manufacturer URL; ComponentLink1URL: http://www.we-online.com; ComponentLink2Description: Datasheet; ComponentLink2URL: http://www.we-online.de/katalog/media/pdf/7447452331.pdf
footprint WE-TI 8012 (THT Inductor, 2-Leads, Body 8,0  mm)
pins: 1, 2

## 7447452391
designator L?
Radial Leaded Wire Wound Inductor WE-TI, L=390 µH; PartNumber: 7447452391; Inductance: 390 µH; PackageReference: WE-TI 8012; ComponentLink1Description: Manufacturer URL; ComponentLink1URL: http://www.we-online.com; ComponentLink2Description: Datasheet; ComponentLink2URL: http://www.we-online.de/katalog/media/pdf/7447452391.pdf
footprint WE-TI 8012 (THT Inductor, 2-Leads, Body 8,0  mm)
pins: 1, 2

## 7447452392
designator L?
Radial Leaded Wire Wound Inductor WE-TI, L=3900 µH; PartNumber: 7447452392; Inductance: 3900 µH; PackageReference: WE-TI 8012; ComponentLink1Description: Manufacturer URL; ComponentLink1URL: http://www.we-online.com; ComponentLink2Description: Datasheet; ComponentLink2URL: http://www.we-online.de/katalog/media/pdf/7447452392.pdf
footprint WE-TI 8012 (THT Inductor, 2-Leads, Body 8,0  mm)
pins: 1, 2

## 7447452472
designator L?
Radial Leaded Wire Wound Inductor WE-TI, L=4700 µH; PartNumber: 7447452472; Inductance: 4700 µH; PackageReference: WE-TI 8012; ComponentLink1Description: Manufacturer URL; ComponentLink1URL: http://www.we-online.com; ComponentLink2Description: Datasheet; ComponentLink2URL: http://www.we-online.de/katalog/media/pdf/7447452472.pdf
footprint WE-TI 8012 (THT Inductor, 2-Leads, Body 8,0  mm)
pins: 1, 2

## 7447452561
designator L?
Radial Leaded Wire Wound Inductor WE-TI, L=560 µH; PartNumber: 7447452561; Inductance: 560 µH; PackageReference: WE-TI 8012; ComponentLink1Description: Manufacturer URL; ComponentLink1URL: http://www.we-online.com; ComponentLink2Description: Datasheet; ComponentLink2URL: http://www.we-online.de/katalog/media/pdf/7447452561.pdf
footprint WE-TI 8012 (THT Inductor, 2-Leads, Body 8,0  mm)
pins: 1, 2

## 7447452683
designator L?
Radial Leaded Wire Wound Inductor WE-TI, L=68000 µH; PartNumber: 7447452683; PackageReference: WE-TI 8012; Inductance: 68000 µH; ComponentLink1Description: Manufacturer URL; ComponentLink1URL: http://www.we-online.com; ComponentLink2Description: Datasheet; ComponentLink2URL: http://www.we-online.de/katalog/media/pdf/7447452683.pdf
footprint WE-TI 8012 (THT Inductor, 2-Leads, Body 8,0  mm)
pins: 1, 2

## 7447452821
designator L?
Radial Leaded Wire Wound Inductor WE-TI, L=820 µH; PartNumber: 7447452821; Inductance: 820 µH; PackageReference: WE-TI 8012; ComponentLink1Description: Manufacturer URL; ComponentLink1URL: http://www.we-online.com; ComponentLink2Description: Datasheet; ComponentLink2URL: http://www.we-online.de/katalog/media/pdf/7447452821.pdf
footprint WE-TI 8012 (THT Inductor, 2-Leads, Body 8,0  mm)
pins: 1, 2

## 7447462010
designator L?
Radial Leaded Wire Wound Inductor WE-TI, L = 1.00 µH; PartNumber: 7447462010; DatasheetVersion: ver 2, Jan-2011; PackageReference: WE-TI-XS; PackageDescription: THT Inductor, 2-Leads, Body 6.0 x 6.0 mm; ComponentLink1Description: Manufacturer URL; ComponentLink1URL: http://www.we-online.com; ComponentLink2Description: Datasheet; ComponentLink2URL: http://www.we-online.de/katalog/media/pdf/7447462010.pdf
footprint WE-TI-XS (THT Inductor, 2-Leads, Body 6.0x6.0x8.5 mm)
pins: 1, 2

## 7447462022
designator L?
Radial Leaded Wire Wound Inductor WE-TI, L = 2.20 µH; PartNumber: 7447462022; DatasheetVersion: ver 2, Jan-2011; PackageReference: WE-TI-XS; PackageDescription: THT Inductor, 2-Leads, Body 6.0 x 6.0 mm; ComponentLink1Description: Manufacturer URL; ComponentLink1URL: http://www.we-online.com; ComponentLink2Description: Datasheet; ComponentLink2URL: http://www.we-online.de/katalog/media/pdf/7447462022.pdf
footprint WE-TI-XS (THT Inductor, 2-Leads, Body 6.0x6.0x8.5 mm)
pins: 1, 2

## 7447462033
designator L?
Radial Leaded Wire Wound Inductor WE-TI, L = 3.30 µH; PartNumber: 7447462033; DatasheetVersion: ver 2, Jan-2011; PackageReference: WE-TI-XS; PackageDescription: THT Inductor, 2-Leads, Body 6.0 x 6.0 mm; ComponentLink1Description: Manufacturer URL; ComponentLink1URL: http://www.we-online.com; ComponentLink2Description: Datasheet; ComponentLink2URL: http://www.we-online.de/katalog/media/pdf/7447462033.pdf
footprint WE-TI-XS (THT Inductor, 2-Leads, Body 6.0x6.0x8.5 mm)
pins: 1, 2

## 7447462047
designator L?
Radial Leaded Wire Wound Inductor WE-TI, L = 4.70 µH; PartNumber: 7447462047; DatasheetVersion: ver 2, Jan-2011; PackageReference: WE-TI-XS; PackageDescription: THT Inductor, 2-Leads, Body 6.0 x 6.0 mm; ComponentLink1Description: Manufacturer URL; ComponentLink1URL: http://www.we-online.com; ComponentLink2Description: Datasheet; ComponentLink2URL: http://www.we-online.de/katalog/media/pdf/7447462047.pdf
footprint WE-TI-XS (THT Inductor, 2-Leads, Body 6.0x6.0x8.5 mm)
pins: 1, 2

## 7447462068
designator L?
Radial Leaded Wire Wound Inductor WE-TI, L=6.80 µH; PartNumber: 7447462068; Inductance: 6.80 µH; PackageReference: WE-TI-XS; PackageDescription: THT Inductor, 2-Leads, Body 6.0 x 6.0 mm; ComponentLink1Description: Manufacturer URL; ComponentLink1URL: http://www.we-online.com; ComponentLink2Description: Datasheet; ComponentLink2URL: http://www.we-online.de/katalog/media/pdf/7447462068.pdf
footprint WE-TI-XS (THT Inductor, 2-Leads, Body 6.0x6.0x8.5 mm)
pins: 1, 2

## 7447462100
designator L?
Radial Leaded Wire Wound Inductor WE-TI, L = 10.0 µH; PartNumber: 7447462100; DatasheetVersion: ver 2, Jan-2011; PackageReference: WE-TI-XS; PackageDescription: THT Inductor, 2-Leads, Body 6.0 x 6.0 mm; ComponentLink1Description: Manufacturer URL; ComponentLink1URL: http://www.we-online.com; ComponentLink2Description: Datasheet; ComponentLink2URL: http://www.we-online.de/katalog/media/pdf/7447462100.pdf
footprint WE-TI-XS (THT Inductor, 2-Leads, Body 6.0x6.0x8.5 mm)
pins: 1, 2

## 7447462101
designator L?
Radial Leaded Wire Wound Inductor WE-TI, L = 100 µH; PartNumber: 7447462101; DatasheetVersion: ver 2, Jan-2011; PackageReference: WE-TI-XS; PackageDescription: THT Inductor, 2-Leads, Body 6.0 x 6.0 mm; ComponentLink1Description: Manufacturer URL; ComponentLink1URL: http://www.we-online.com; ComponentLink2Description: Datasheet; ComponentLink2URL: http://www.we-online.de/katalog/media/pdf/7447462101.pdf
footprint WE-TI-XS (THT Inductor, 2-Leads, Body 6.0x6.0x8.5 mm)
pins: 1, 2

## 7447462102
designator L?
Radial Leaded Wire Wound Inductor WE-TI, L = 1000 µH; PartNumber: 7447462102; DatasheetVersion: ver 2, Jan-2011; PackageReference: WE-TI-XS; PackageDescription: THT Inductor, 2-Leads, Body 6.0 x 6.0 mm; ComponentLink1Description: Manufacturer URL; ComponentLink1URL: http://www.we-online.com; ComponentLink2Description: Datasheet; ComponentLink2URL: http://www.we-online.de/katalog/media/pdf/7447462102.pdf
footprint WE-TI-XS (THT Inductor, 2-Leads, Body 6.0x6.0x8.5 mm)
pins: 1, 2

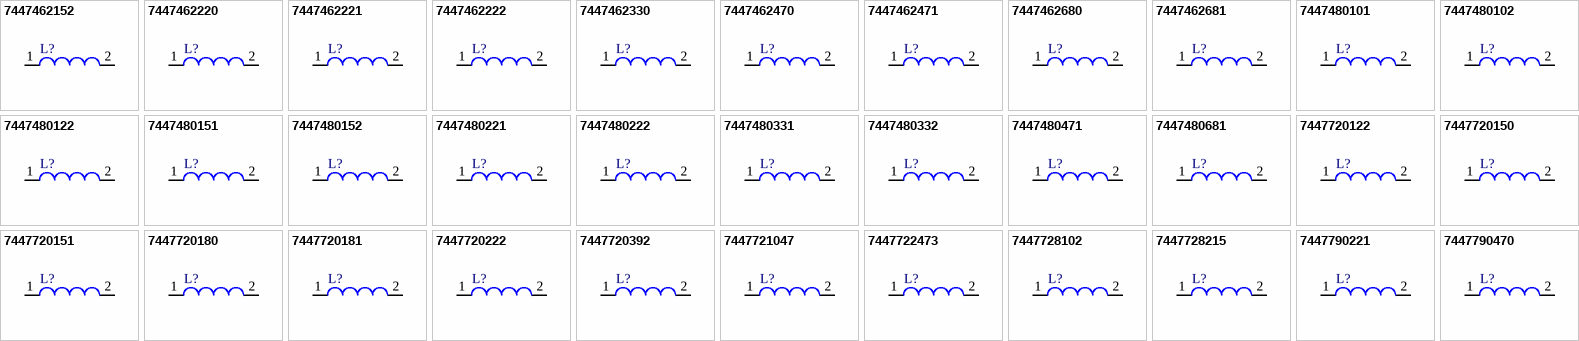
[diagram p2: symbols 7447462152 to 7447790470]

## 7447462152
designator L?
Radial Leaded Wire Wound Inductor WE-TI, L = 1500 µH; PartNumber: 7447462152; DatasheetVersion: ver 2, Jan-2011; PackageReference: WE-TI-XS; PackageDescription: THT Inductor, 2-Leads, Body 6.0 x 6.0 mm; ComponentLink1Description: Manufacturer URL; ComponentLink1URL: http://www.we-online.com; ComponentLink2Description: Datasheet; ComponentLink2URL: http://www.we-online.de/katalog/media/pdf/7447462152.pdf
footprint WE-TI-XS (THT Inductor, 2-Leads, Body 6.0x6.0x8.5 mm)
pins: 1, 2

## 7447462220
designator L?
Radial Leaded Wire Wound Inductor WE-TI, L = 22.0 µH; PartNumber: 7447462220; DatasheetVersion: ver 2, Jan-2011; PackageReference: WE-TI-XS; PackageDescription: THT Inductor, 2-Leads, Body 6.0 x 6.0 mm; ComponentLink1Description: Manufacturer URL; ComponentLink1URL: http://www.we-online.com; ComponentLink2Description: Datasheet; ComponentLink2URL: http://www.we-online.de/katalog/media/pdf/7447462220.pdf
footprint WE-TI-XS (THT Inductor, 2-Leads, Body 6.0x6.0x8.5 mm)
pins: 1, 2

## 7447462221
designator L?
Radial Leaded Wire Wound Inductor WE-TI, L = 220 µH; PartNumber: 7447462221; DatasheetVersion: ver 2, Jan-2011; PackageReference: WE-TI-XS; PackageDescription: THT Inductor, 2-Leads, Body 6.0 x 6.0 mm; ComponentLink1Description: Manufacturer URL; ComponentLink1URL: http://www.we-online.com; ComponentLink2Description: Datasheet; ComponentLink2URL: http://www.we-online.de/katalog/media/pdf/7447462221.pdf
footprint WE-TI-XS (THT Inductor, 2-Leads, Body 6.0x6.0x8.5 mm)
pins: 1, 2

## 7447462222
designator L?
Radial Leaded Wire Wound Inductor WE-TI, L=2200 µH; PartNumber: 7447462222; Inductance: 2200 µH; PackageReference: WE-TI-XS; PackageDescription: THT Inductor, 2-Leads, Body 6.0 x 6.0 mm; ComponentLink1Description: Manufacturer URL; ComponentLink1URL: http://www.we-online.com; ComponentLink2Description: Datasheet; ComponentLink2URL: http://www.we-online.de/katalog/media/pdf/7447462222.pdf
footprint WE-TI-XS (THT Inductor, 2-Leads, Body 6.0x6.0x8.5 mm)
pins: 1, 2

## 7447462330
designator L?
Radial Leaded Wire Wound Inductor WE-TI, L = 33.0 µH; PartNumber: 7447462330; DatasheetVersion: ver 2, Jan-2011; PackageReference: WE-TI-XS; PackageDescription: THT Inductor, 2-Leads, Body 6.0 x 6.0 mm; ComponentLink1Description: Manufacturer URL; ComponentLink1URL: http://www.we-online.com; ComponentLink2Description: Datasheet; ComponentLink2URL: http://www.we-online.de/katalog/media/pdf/7447462330.pdf
footprint WE-TI-XS (THT Inductor, 2-Leads, Body 6.0x6.0x8.5 mm)
pins: 1, 2

## 7447462470
designator L?
Radial Leaded Wire Wound Inductor WE-TI, L = 47.0 µH; PartNumber: 7447462470; DatasheetVersion: ver 2, Jan-2011; PackageReference: WE-TI-XS; PackageDescription: THT Inductor, 2-Leads, Body 6.0 x 6.0 mm; ComponentLink1Description: Manufacturer URL; ComponentLink1URL: http://www.we-online.com; ComponentLink2Description: Datasheet; ComponentLink2URL: http://www.we-online.de/katalog/media/pdf/7447462470.pdf
footprint WE-TI-XS (THT Inductor, 2-Leads, Body 6.0x6.0x8.5 mm)
pins: 1, 2

## 7447462471
designator L?
Radial Leaded Wire Wound Inductor WE-TI, L = 470 µH; PartNumber: 7447462471; DatasheetVersion: ver 2, Jan-2011; PackageReference: WE-TI-XS; PackageDescription: THT Inductor, 2-Leads, Body 6.0 x 6.0 mm; ComponentLink1Description: Manufacturer URL; ComponentLink1URL: http://www.we-online.com; ComponentLink2Description: Datasheet; ComponentLink2URL: http://www.we-online.de/katalog/media/pdf/7447462471.pdf
footprint WE-TI-XS (THT Inductor, 2-Leads, Body 6.0x6.0x8.5 mm)
pins: 1, 2

## 7447462680
designator L?
Radial Leaded Wire Wound Inductor WE-TI, L=68.0 µH; PartNumber: 7447462680; Inductance: 68.0 µH; PackageReference: WE-TI-XS; PackageDescription: THT Inductor, 2-Leads, Body 6.0 x 6.0 mm; ComponentLink1Description: Manufacturer URL; ComponentLink1URL: http://www.we-online.com; ComponentLink2Description: Datasheet; ComponentLink2URL: http://www.we-online.de/katalog/media/pdf/7447462680.pdf
footprint WE-TI-XS (THT Inductor, 2-Leads, Body 6.0x6.0x8.5 mm)
pins: 1, 2

## 7447462681
designator L?
Radial Leaded Wire Wound Inductor WE-TI, L=680 µH; PartNumber: 7447462681; Inductance: 680 µH; PackageReference: WE-TI-XS; PackageDescription: THT Inductor, 2-Leads, Body 6.0 x 6.0 mm; ComponentLink1Description: Manufacturer URL; ComponentLink1URL: http://www.we-online.com; ComponentLink2Description: Datasheet; ComponentLink2URL: http://www.we-online.de/katalog/media/pdf/7447462681.pdf
footprint WE-TI-XS (THT Inductor, 2-Leads, Body 6.0x6.0x8.5 mm)
pins: 1, 2

## 7447480101
designator L?
Radial Leaded Wire Wound Inductor WE-TI, L=100 µH; PartNumber: 7447480101; Inductance: 100 µH; PackageReference: WE-TI 1014; ComponentLink1Description: Manufacturer URL; ComponentLink1URL: http://www.we-online.com; ComponentLink2Description: Datasheet; ComponentLink2URL: http://www.we-online.de/katalog/media/pdf/7447480101.pdf
footprint WE-TI 1014 (THT Inductor, 2-Leads, Body 10,0  mm)
pins: 1, 2

## 7447480102
designator L?
Radial Leaded Wire Wound Inductor WE-TI, L=1000 µH; PartNumber: 7447480102; Inductance: 1000 µH; PackageReference: WE-TI 1014; ComponentLink1Description: Manufacturer URL; ComponentLink1URL: http://www.we-online.com; ComponentLink2Description: Datasheet; ComponentLink2URL: http://www.we-online.de/katalog/media/pdf/7447480102.pdf
footprint WE-TI 1014 (THT Inductor, 2-Leads, Body 10,0  mm)
pins: 1, 2

## 7447480122
designator L?
Radial Leaded Wire Wound Inductor WE-TI, L=1200 µH; PartNumber: 7447480122; Inductance: 1200 µH; PackageReference: WE-TI 1014; ComponentLink1Description: Manufacturer URL; ComponentLink1URL: http://www.we-online.com; ComponentLink2Description: Datasheet; ComponentLink2URL: http://www.we-online.de/katalog/media/pdf/7447480122.pdf
footprint WE-TI 1014 (THT Inductor, 2-Leads, Body 10,0  mm)
pins: 1, 2

## 7447480151
designator L?
Radial Leaded Wire Wound Inductor WE-TI, L=150 µH; PartNumber: 7447480151; Inductance: 150 µH; PackageReference: WE-TI 1014; ComponentLink1Description: Manufacturer URL; ComponentLink1URL: http://www.we-online.com; ComponentLink2Description: Datasheet; ComponentLink2URL: http://www.we-online.de/katalog/media/pdf/7447480151.pdf
footprint WE-TI 1014 (THT Inductor, 2-Leads, Body 10,0  mm)
pins: 1, 2

## 7447480152
designator L?
Radial Leaded Wire Wound Inductor WE-TI, L=1500 µH; PartNumber: 7447480152; Inductance: 1500 µH; PackageReference: WE-TI 1014; ComponentLink1Description: Manufacturer URL; ComponentLink1URL: http://www.we-online.com; ComponentLink2Description: Datasheet; ComponentLink2URL: http://www.we-online.de/katalog/media/pdf/7447480152.pdf
footprint WE-TI 1014 (THT Inductor, 2-Leads, Body 10,0  mm)
pins: 1, 2

## 7447480221
designator L?
Radial Leaded Wire Wound Inductor WE-TI, L=220 µH; PartNumber: 7447480221; Inductance: 220 µH; PackageReference: WE-TI 1014; ComponentLink1Description: Manufacturer URL; ComponentLink1URL: http://www.we-online.com; ComponentLink2Description: Datasheet; ComponentLink2URL: http://www.we-online.de/katalog/media/pdf/7447480221.pdf
footprint WE-TI 1014 (THT Inductor, 2-Leads, Body 10,0  mm)
pins: 1, 2

## 7447480222
designator L?
Radial Leaded Wire Wound Inductor WE-TI, L=2200 µH; PartNumber: 7447480222; Inductance: 2200 µH; PackageReference: WE-TI 1014; ComponentLink1Description: Manufacturer URL; ComponentLink1URL: http://www.we-online.com; ComponentLink2Description: Datasheet; ComponentLink2URL: http://www.we-online.de/katalog/media/pdf/7447480222.pdf
footprint WE-TI 1014 (THT Inductor, 2-Leads, Body 10,0  mm)
pins: 1, 2

## 7447480331
designator L?
Radial Leaded Wire Wound Inductor WE-TI, L=330 µH; PartNumber: 7447480331; Inductance: 330 µH; PackageReference: WE-TI 1014; ComponentLink1Description: Manufacturer URL; ComponentLink1URL: http://www.we-online.com; ComponentLink2Description: Datasheet; ComponentLink2URL: http://www.we-online.de/katalog/media/pdf/7447480331.pdf
footprint WE-TI 1014 (THT Inductor, 2-Leads, Body 10,0  mm)
pins: 1, 2

## 7447480332
designator L?
Radial Leaded Wire Wound Inductor WE-TI, L=3300 µH; PartNumber: 7447480332; Inductance: 3300 µH; PackageReference: WE-TI 1014; ComponentLink1Description: Manufacturer URL; ComponentLink1URL: http://www.we-online.com; ComponentLink2Description: Datasheet; ComponentLink2URL: http://www.we-online.de/katalog/media/pdf/7447480332.pdf
footprint WE-TI 1014 (THT Inductor, 2-Leads, Body 10,0  mm)
pins: 1, 2

## 7447480471
designator L?
Radial Leaded Wire Wound Inductor WE-TI, L=470 µH; PartNumber: 7447480471; Inductance: 470 µH; PackageReference: WE-TI 1014; ComponentLink1Description: Manufacturer URL; ComponentLink1URL: http://www.we-online.com; ComponentLink2Description: Datasheet; ComponentLink2URL: http://www.we-online.de/katalog/media/pdf/7447480471.pdf
footprint WE-TI 1014 (THT Inductor, 2-Leads, Body 10,0  mm)
pins: 1, 2

## 7447480681
designator L?
Radial Leaded Wire Wound Inductor WE-TI, L=680 µH; PartNumber: 7447480681; Inductance: 680 µH; PackageReference: WE-TI 1014; ComponentLink1Description: Manufacturer URL; ComponentLink1URL: http://www.we-online.com; ComponentLink2Description: Datasheet; ComponentLink2URL: http://www.we-online.de/katalog/media/pdf/7447480681.pdf
footprint WE-TI 1014 (THT Inductor, 2-Leads, Body 10,0  mm)
pins: 1, 2

## 7447720122
designator L?
Radial Leaded Wire Wound Inductor WE-TI, L = 1200 µH; PartNumber: 7447720122; DatasheetVersion: ver 1, Oct-2009; PackageReference: WE-TI-L; PackageDescription: THT Inductor, 2-Leads, Body 7.8 x 7.8 mm; ComponentLink1Description: Manufacturer URL; ComponentLink1URL: http://www.we-online.com; ComponentLink2Description: Datasheet; ComponentLink2URL: http://www.we-online.de/katalog/media/pdf/7447720122.pdf
footprint WE-TI-L (THT Inductor, 2-Leads, Body 7.8x7.8x10.0 mm)
pins: 1, 2

## 7447720150
designator L?
Radial Leaded Wire Wound Inductor WE-TI, L = 15.0 µH; PartNumber: 7447720150; DatasheetVersion: ver 1, Jul-2008; PackageReference: WE-TI-L; PackageDescription: THT Inductor, 2-Leads, Body 7.8 x 7.8 mm; ComponentLink1Description: Manufacturer URL; ComponentLink1URL: http://www.we-online.com; ComponentLink2Description: Datasheet; ComponentLink2URL: http://www.we-online.de/katalog/media/pdf/7447720150.pdf
footprint WE-TI-L (THT Inductor, 2-Leads, Body 7.8x7.8x10.0 mm)
pins: 1, 2